# Altium integrated library BAT760-7 (2).IntLib: 1 symbol
Pins are listed as number, name and electrical type; pins without a type are passive.

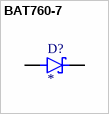
[diagram p0: symbol BAT760-7]

## BAT760-7
designator D?
Diode Schottky 30V 1A Surface Mount SOD-323; MP: BAT760-7; MF: Pericom; Package: SOD-323 Pericom; Availability: In Stock; SnapEDA_Link: https://www.snapeda.com/parts/BAT760-7/Pericom/view-part/?ref=snap; Value: *; Price: None; Purchase-URL: https://pricing.snapeda.com/search/part/BAT760-7/?ref=eda; Check_prices: https://www.snapeda.com/parts/BAT760-7/Pericom/view-part/?ref=eda
footprint SOD2513X120N
pins: A, C K